# Altium footprint library RALTRON.PcbLib: 3 footprints
Each footprint in its own frame and in the unit in brackets; x right, y up, seen from the top. Pads: shape width x height; smd on the part's side, far side on the other; paste and mask are expansions set on the pad; w line width, h text height; cw(c..) or ccw(c..) is an arc to the next point about the centre after c.
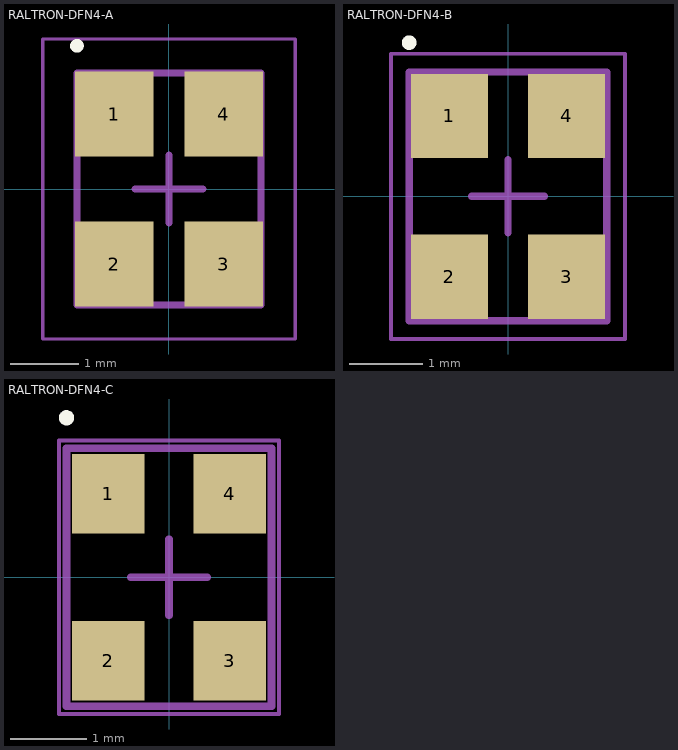
[diagram p0: the footprints below, top view; thin cyan lines are the x and y axes]

## RALTRON-DFN4-A [mm] "DFN, 4-Leads, Body 3.20x2.50mm, Pitch 1.60mm, IPC Low Density"
height 0.8
pads (4):
  rect 1.15x1.25 smd: 1(-0.8,1.1) 2(-0.8,-1.1) 3(0.8,-1.1) 4(0.8,1.1)
Top Overlay:
  circle w0.1: c-1.35,2.1 r0.05
Mechanical 13:
  lines w0.1: -1.35,-1.7 -1.35,1.7 1.35,1.7 1.35,-1.7 -1.35,-1.7
Mechanical 15:
  lines w0.05: -1.85,-2.2 -1.85,2.2 1.85,2.2 1.85,-2.2 -1.85,-2.2
  lines w0.1: -0.5,0 0.5,0 ; 0,-0.5 0,0.5
3D body "User Library-RH100.step": height 0.72, standoff -0.02, extent -1.25,-1.6 1.25,1.6

## RALTRON-DFN4-B [mm] "DFN, 4-Leads, Body 3.20x2.50mm, Pitch 1.60mm, IPC Medium Density"
height 0.8
pads (4):
  rect 1.05x1.15 smd: 1(-0.8,1.1) 2(-0.8,-1.1) 3(0.8,-1.1) 4(0.8,1.1)
Top Overlay:
  circle w0.1: c-1.35,2.1 r0.05
Mechanical 13:
  lines w0.1: -1.35,-1.7 1.35,-1.7 1.35,1.7 -1.35,1.7 -1.35,-1.7
Mechanical 15:
  lines w0.05: -1.6,-1.95 1.6,-1.95 1.6,1.95 -1.6,1.95 -1.6,-1.95
  lines w0.1: -0.5,0 0.5,0 ; 0,-0.5 0,0.5
3D body "User Library-RH100.step": height 0.72, standoff -0.02, extent -1.25,-1.6 1.25,1.6

## RALTRON-DFN4-C [mm] "DFN, 4-Leads, Body 3.20x2.50mm, Pitch 1.60mm, IPC High Density"
height 0.8
pads (4):
  rect 0.95x1.05 smd: 1(-0.8,1.1) 2(-0.8,-1.1) 3(0.8,-1.1) 4(0.8,1.1)
Top Overlay:
  circle w0.1: c-1.35,2.1 r0.05
Mechanical 13:
  lines w0.1: -1.35,-1.7 -1.35,1.7 1.35,1.7 1.35,-1.7 -1.35,-1.7
Mechanical 15:
  lines w0.05: -1.45,-1.8 -1.45,1.8 1.45,1.8 1.45,-1.8 -1.45,-1.8
  lines w0.1: -0.5,0 0.5,0 ; 0,-0.5 0,0.5
3D body "User Library-RH100.step": height 0.72, standoff -0.02, extent -1.25,-1.6 1.25,1.6